# EAGLE library part AD9833 (library analogdevices-dds)
LowPower Waveform Generator Clock Rate up to 12,5 MHz Serial Interface Low Pin Count
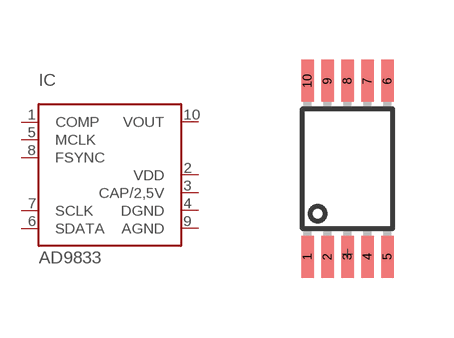
[diagram p0: symbol with the pads of MSOP10; footprint MSOP10]

Designator prefix IC

## AD9833  [MSOP10]
1  COMP
2  VDD  pwr
3  CAP/2,5V  pwr
4  DGND  pwr
5  MCLK
6  SDATA
7  SCLK
8  FSYNC
9  AGND  pwr
10  VOUT

## Footprint MSOP10 (pad centres in mm)
smd 0.32 x 1.05: 1 -1,-2.2; 2 -0.5,-2.2; 3 0,-2.2; 4 0.5,-2.2; 5 1,-2.2; 6 1,2.2; 7 0.5,2.2; 8 0,2.2; 9 -0.5,2.2; 10 -1,2.2